# Altium footprint library Galio-connectors.PcbLib: 64 footprints (part 2 of 4)
Each footprint in its own frame and in the unit in brackets; x right, y up, seen from the top. Pads: shape width x height; smd on the part's side, far side on the other; paste and mask are expansions set on the pad; w line width, h text height; cw(c..) or ccw(c..) is an arc to the next point about the centre after c.
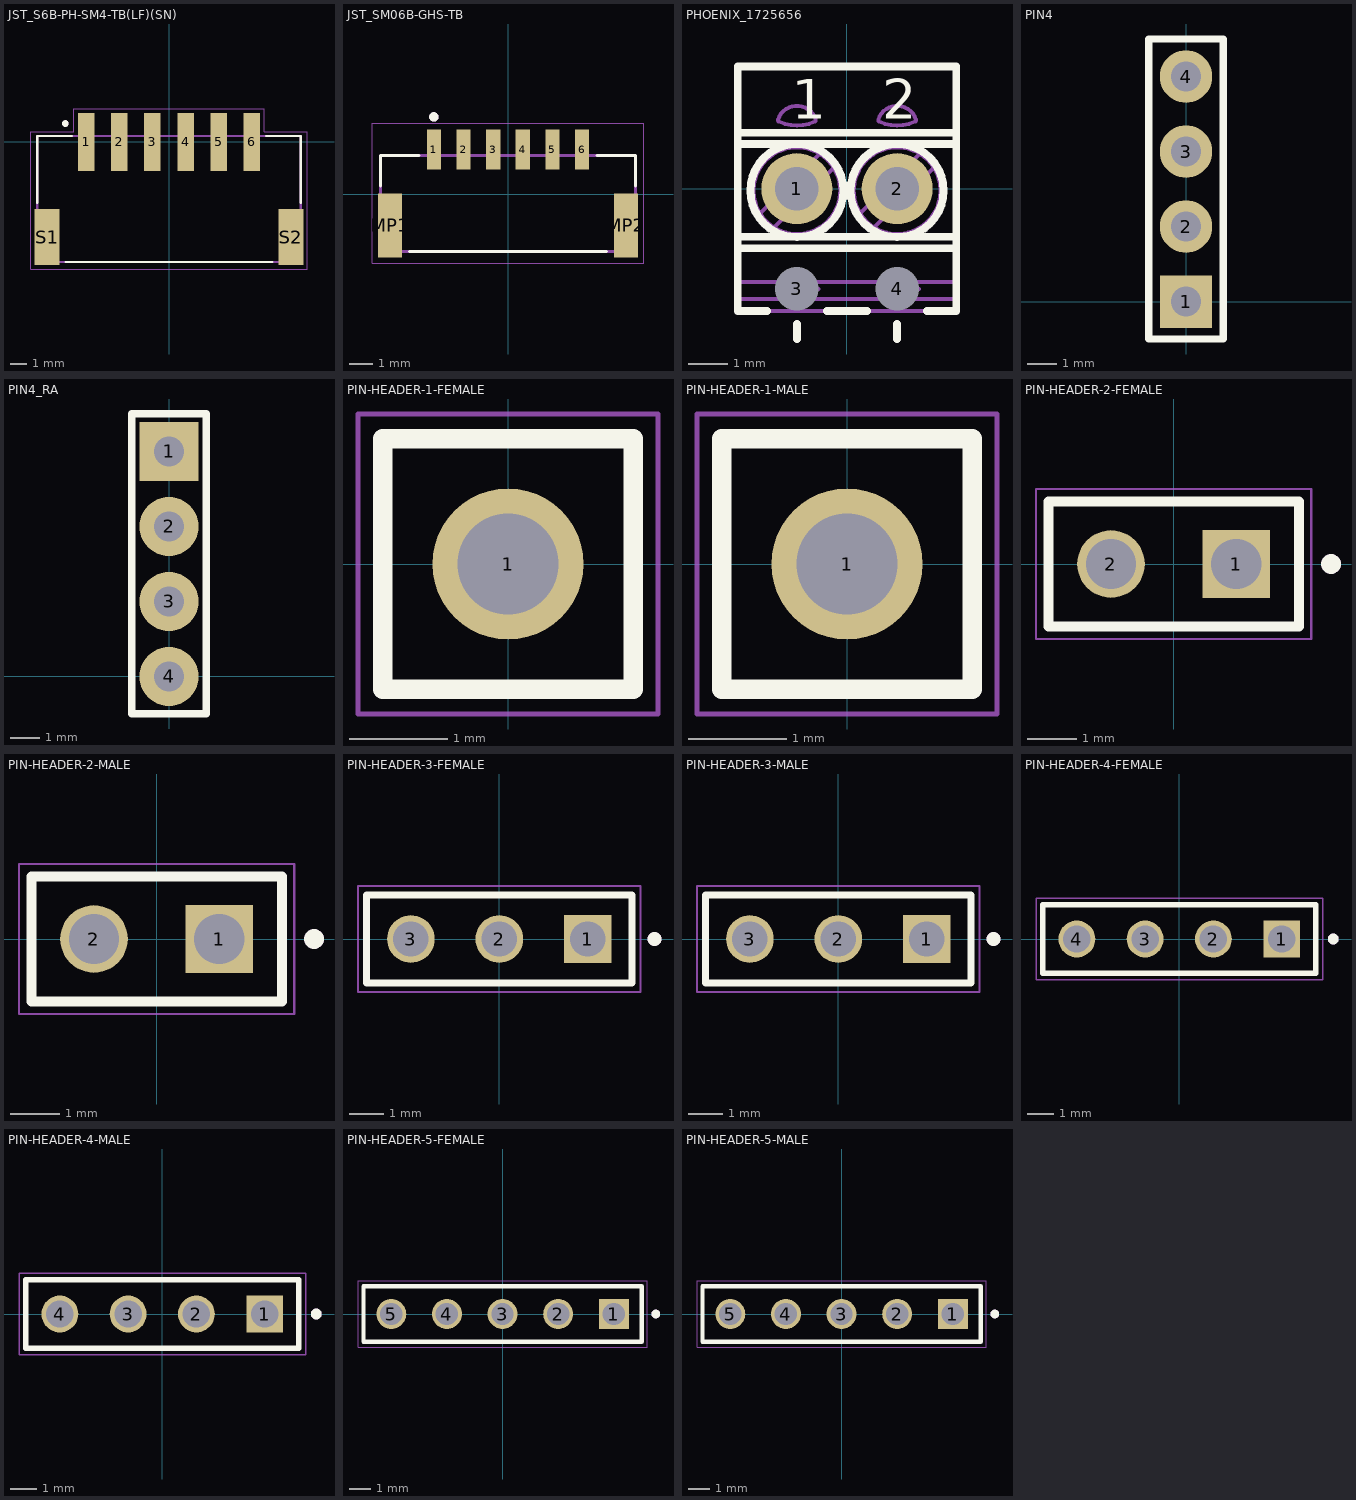
[diagram p1: the footprints below, top view; thin cyan lines are the x and y axes]

## JST_S6B-PH-SM4-TB(LF)(SN) [mm]
pads (8):
  rect 1x3.5 smd: 1(-5,0) 2(-3,0) 3(-1,0) 4(1,0) 5(3,0) 6(5,0)
  rect 1.5x3.4 smd: S1(-7.35,-5.75) S2(7.35,-5.75)
Top Overlay:
  circle w0.3: c-6.25,1.1 r0.05
  lines w0.127: -7.95,-3.7 -7.95,0.35 -5.85,0.35 ; -6.25,-7.25 6.25,-7.25 ; 5.85,0.35 7.95,0.35 7.95,-3.7
Mechanical 13:
  circle w0.3: c-6.25,1.1 r0.05
  lines w0.127: -7.95,-7.25 -7.95,0.35 7.95,0.35 7.95,-7.25 -7.95,-7.25
Mechanical 15:
  lines w0.05: -8.35,-7.7 -8.35,0.6 -5.75,0.6 -5.75,2 5.75,2 5.75,0.6 8.35,0.6 8.35,-7.7 -8.35,-7.7
3D body "step_temp.STEP": height 5.5, standoff -0.1, extent -8.204,-7.348 7.696,1.252

## JST_SM06B-GHS-TB [mm]
pads (8):
  rect 0.6x1.7 smd paste+0 mask+0.102: 1(-3.125,1.875) 2(-1.875,1.875) 3(-0.625,1.875) 4(0.625,1.875) 5(1.875,1.875) 6(3.125,1.875)
  rect 1x2.7 smd paste+0 mask+0.102: MP1(-4.975,-1.325) MP2(4.975,-1.325)
Top Overlay:
  circle w0.2: c-3.125,3.25 r0.1
  lines w0.127: -5.375,0.345 -5.375,1.625 -3.745,1.625 ; -4.155,-2.425 4.155,-2.425 ; 3.745,1.625 5.375,1.625 5.375,0.345
Mechanical 13:
  circle w0.2: c-3.125,3.25 r0.1
  lines w0.127: -5.375,-2.425 -5.375,1.625 5.375,1.625 5.375,-2.425 -5.375,-2.425
Mechanical 15:
  lines w0.05: -5.725,-2.925 -5.725,2.975 5.725,2.975 5.725,-2.925 -5.725,-2.925
3D body "step_temp.STEP": height 4.25, standoff 0, extent -5.375,-2.048 5.375,2.802

## PCBComponent_1 [mil]

## PHOENIX_1725656 [mm] "Micro PCB Terminal Block, Pitch 2.54mm, 2 Positions, Screw Connection"
height 8.5
pads (4):
  round 1.8 hole 1.1: 1(-1.27,0) 2(1.27,0)
  round 1 hole 1.1 unplated: 3(-1.27,-2.54) 4(1.27,-2.54)
Top Overlay:
  circle w0.2: c-1.27,-0.05 r1.18
  circle w0.2: c1.27,-0.05 r1.18
  lines w0.2: -2.77,-1.51 2.77,-1.51 ; -2.77,-1.22 2.77,-1.22 ; -2.77,1.132 2.77,1.132 ; -2.77,1.417 2.77,1.417 ; -2.032,-3.1 -2.77,-3.1 -2.77,3.1 2.77,3.1 2.77,-3.1 2.032,-3.1 ; -1.27,-3.81 -1.27,-3.429 ; -0.508,-3.1 0.508,-3.1 ; 1.27,-3.81 1.27,-3.429
  text "1" at -1.397,1.778 h1
  text "2" at 0.889,1.778 h1
Mechanical 8:
  lines w0.1: -1.82,0 -1.27,0 -1.27,-0.55 ; -1.27,-3.09 -1.27,-2.54 -0.72,-2.54 ; 1.27,-3.09 1.27,-2.54 1.82,-2.54 ; 1.27,-0.55 1.27,0 1.82,0
Mechanical 14:
  circle w0.1: c-1.27,-0.05 r1.1
  circle w0.1: c1.27,-0.05 r1.1
  lines w0.1: -2.77,-2.8 2.77,-2.8 ; -2.77,-2.361 2.77,-2.361 ; -2.77,-1.51 2.77,-1.51 ; -2.77,-1.22 2.77,-1.22 ; -2.77,1.132 2.77,1.132 ; -2.77,1.417 2.77,1.417 ; -2.168,-0.594 -0.726,0.848 ; -1.814,-0.948 -0.372,0.494 ; 0.372,-0.594 1.814,0.848 ; 0.726,-0.948 2.168,0.494 ; -2.77,-3.1 -2.77,3.1 2.77,3.1 2.77,-3.1 -2.77,-3.1 ; -1.745,1.757 cw(c-1.27,1.6) -0.795,1.757 cw(c-0.843,1.741) -0.822,1.696 cw(c-1.27,2.696) -1.718,1.696 cw(c-1.697,1.741) -1.745,1.757 ; 0.795,1.757 ccw(c0.843,1.741) 0.822,1.696 ccw(c1.27,2.696) 1.718,1.696 ccw(c1.697,1.741) 1.745,1.757 ccw(c1.27,1.6) 0.795,1.757
3D body "PHOENIX_1725656.stp": height 8.5, standoff -3.5, extent -2.77,-3.1 2.77,3.1

## PIN4 [mil]
pads (4):
  rect 70x70 hole 40: 1(0,0)
  round 70 hole 40: 2(0,100) 3(0,200) 4(0,300)
Top Overlay:
  lines w10: -50,-50 50,-50 50,350 -50,350 -50,-50
3D body "90120-0924.stp": height 345.37, standoff -133.02, extent -50.44,-50.45 49.56,349.55

## PIN4_RA [mm]
pads (4):
  rect 2x2 hole 1: 1(0,7.62)
  round 2 hole 1: 2(0,5.08) 3(0,2.54) 4(0,0)
Top Overlay:
  lines w0.254: -1.27,-1.27 1.27,-1.27 1.27,8.89 -1.27,8.89 -1.27,-1.27
3D body "4232.stp": height 6.15, standoff -3.3, extent -1.441,-1.228 8.643,8.678

## PIN-HEADER-1-FEMALE [mm]
pads (1):
  round 1.53 hole 1.02 mask+0.102: 1(0,0)
Top Overlay:
  lines w0.2: -1.27,-1.27 1.27,-1.27 1.27,1.27 -1.27,1.27 -1.27,-1.27
Mechanical 13:
  lines w0.1: -1.27,-1.27 1.27,-1.27 1.27,1.27 -1.27,1.27 -1.27,-1.27
Mechanical 15:
  lines w0.05: -1.52,-1.52 1.52,-1.52 1.52,1.52 -1.52,1.52 -1.52,-1.52

## PIN-HEADER-1-MALE [mm]
pads (1):
  round 1.53 hole 1.02 mask+0.102: 1(0,0)
Top Overlay:
  lines w0.2: -1.27,-1.27 1.27,-1.27 1.27,1.27 -1.27,1.27 -1.27,-1.27
Mechanical 13:
  lines w0.1: -1.27,-1.27 1.27,-1.27 1.27,1.27 -1.27,1.27 -1.27,-1.27
Mechanical 15:
  lines w0.05: -1.52,-1.52 1.52,-1.52 1.52,1.52 -1.52,1.52 -1.52,-1.52
3D body "MTSW-101-06-T-S-100.stp": height 5.08, standoff -2.54, extent -1.3,-1.232 1.24,1.308

## PIN-HEADER-2-FEMALE [mm]
pads (2):
  rect 1.37x1.37 hole 1.02: 1(1.27,0)
  round 1.37 hole 1.02: 2(-1.27,0)
Top Overlay:
  circle w0.2: c3.19,0 r0.1
  lines w0.2: -2.54,-1.27 2.54,-1.27 2.54,1.27 -2.54,1.27 -2.54,-1.27
Mechanical 13:
  circle w0.2: c3.19,0 r0.1
  lines w0.1: -2.54,-1.27 -2.54,1.27 ; -2.54,-1.27 2.54,-1.27 ; -2.54,-1.27 -2.54,1.27 ; -2.54,1.27 2.54,1.27 ; -2.54,1.27 2.54,1.27 ; 2.54,-1.27 2.54,1.27 ; 2.54,-1.27 2.54,1.27
Mechanical 15:
  lines w0.05: -2.79,-1.52 2.79,-1.52 2.79,1.52 -2.79,1.52 -2.79,-1.52
3D body "PIN-HEADER-2-FEMALE.step": height 8.5, standoff -3.2, extent -2.54,-1.27 2.54,1.27

## PIN-HEADER-2-MALE [mm]
pads (2):
  rect 1.37x1.37 hole 1.02: 1(1.27,0)
  round 1.37 hole 1.02: 2(-1.27,0)
Top Overlay:
  circle w0.2: c3.19,0 r0.1
  lines w0.2: -2.54,-1.27 -2.54,1.27 2.54,1.27 2.54,-1.27 -2.54,-1.27
Mechanical 13:
  circle w0.2: c3.19,0 r0.1
  lines w0.1: -2.54,-1.27 -2.54,1.27 ; -2.54,-1.27 2.54,-1.27 ; -2.54,-1.27 -2.54,1.27 ; -2.54,1.27 2.54,1.27 ; -2.54,1.27 2.54,1.27 ; 2.54,-1.27 2.54,1.27 ; 2.54,-1.27 2.54,1.27
Mechanical 15:
  lines w0.05: -2.79,-1.52 -2.79,1.52 2.79,1.52 2.79,-1.52 -2.79,-1.52
3D body "MTSW-102-06-T-S-100.stp": height 5.08, standoff -2.54, extent -2.54,-1.27 2.54,1.27

## PIN-HEADER-3-FEMALE [mm]
pads (3):
  rect 1.37x1.37 hole 1.02: 1(2.54,0)
  round 1.37 hole 1.02: 2(0,0) 3(-2.54,0)
Top Overlay:
  circle w0.2: c4.46,0 r0.1
  lines w0.2: -3.81,-1.27 3.81,-1.27 3.81,1.27 -3.81,1.27 -3.81,-1.27
Mechanical 13:
  circle w0.2: c4.46,0 r0.1
  lines w0.1: -3.81,-1.27 -3.81,1.27 ; -3.81,-1.27 3.81,-1.27 ; -3.81,-1.27 -3.81,1.27 ; -3.81,1.27 3.81,1.27 ; -3.81,1.27 3.81,1.27 ; 3.81,-1.27 3.81,1.27 ; 3.81,-1.27 3.81,1.27
Mechanical 15:
  lines w0.05: -4.06,-1.52 4.06,-1.52 4.06,1.52 -4.06,1.52 -4.06,-1.52
3D body "PIN-HEADER-3-FEMALE.step": height 8.5, standoff -3.2, extent -3.81,-1.27 3.81,1.27

## PIN-HEADER-3-MALE [mm]
pads (3):
  rect 1.37x1.37 hole 1.02: 1(2.54,0)
  round 1.37 hole 1.02: 2(0,0) 3(-2.54,0)
Top Overlay:
  circle w0.2: c4.46,0 r0.1
  lines w0.2: -3.81,-1.27 3.81,-1.27 3.81,1.27 -3.81,1.27 -3.81,-1.27
Mechanical 13:
  circle w0.2: c4.46,0 r0.1
  lines w0.1: -3.81,-1.27 -3.81,1.27 ; -3.81,-1.27 3.81,-1.27 ; -3.81,-1.27 -3.81,1.27 ; -3.81,1.27 3.81,1.27 ; -3.81,1.27 3.81,1.27 ; 3.81,-1.27 3.81,1.27 ; 3.81,-1.27 3.81,1.27
Mechanical 15:
  lines w0.05: -4.06,-1.52 4.06,-1.52 4.06,1.52 -4.06,1.52 -4.06,-1.52
3D body "MTSW-103-06-T-S-100.stp": height 5.08, standoff -2.54, extent -3.81,-1.27 3.81,1.27

## PIN-HEADER-4-FEMALE [mm]
pads (4):
  rect 1.37x1.37 hole 1.02: 1(3.81,0)
  round 1.37 hole 1.02: 2(1.27,0) 3(-1.27,0) 4(-3.81,0)
Top Overlay:
  circle w0.2: c5.73,0 r0.1
  lines w0.2: -5.08,-1.27 5.08,-1.27 5.08,1.27 -5.08,1.27 -5.08,-1.27
Mechanical 13:
  circle w0.2: c5.73,0 r0.1
  lines w0.1: -5.08,-1.27 -5.08,1.27 ; -5.08,-1.27 5.08,-1.27 ; -5.08,-1.27 -5.08,1.27 ; -5.08,1.27 5.08,1.27 ; -5.08,1.27 5.08,1.27 ; 5.08,-1.27 5.08,1.27 ; 5.08,-1.27 5.08,1.27
Mechanical 15:
  lines w0.05: -5.33,-1.52 5.33,-1.52 5.33,1.52 -5.33,1.52 -5.33,-1.52
3D body "PIN-HEADER-4-FEMALE.step": height 8.5, standoff -3.2, extent -5.08,-1.27 5.08,1.27

## PIN-HEADER-4-MALE [mm]
pads (4):
  rect 1.37x1.37 hole 1.02: 1(3.81,0)
  round 1.37 hole 1.02: 2(1.27,0) 3(-1.27,0) 4(-3.81,0)
Top Overlay:
  circle w0.2: c5.73,0 r0.1
  lines w0.2: -5.08,-1.27 5.08,-1.27 5.08,1.27 -5.08,1.27 -5.08,-1.27
Mechanical 13:
  circle w0.2: c5.73,0 r0.1
  lines w0.1: -5.08,-1.27 -5.08,1.27 ; -5.08,-1.27 5.08,-1.27 ; -5.08,-1.27 -5.08,1.27 ; -5.08,1.27 5.08,1.27 ; -5.08,1.27 5.08,1.27 ; 5.08,-1.27 5.08,1.27 ; 5.08,-1.27 5.08,1.27
Mechanical 15:
  lines w0.05: -5.33,-1.52 5.33,-1.52 5.33,1.52 -5.33,1.52 -5.33,-1.52
3D body "MTSW-104-06-T-S-100.stp": height 5.08, standoff -2.54, extent -5.08,-1.27 5.08,1.27

## PIN-HEADER-5-FEMALE [mm]
pads (5):
  rect 1.37x1.37 hole 1.02: 1(5.08,0)
  round 1.37 hole 1.02: 2(2.54,0) 3(0,0) 4(-2.54,0) 5(-5.08,0)
Top Overlay:
  circle w0.2: c7,0 r0.1
  lines w0.2: -6.35,-1.27 -6.35,1.27 6.35,1.27 6.35,-1.27 -6.35,-1.27
Mechanical 13:
  circle w0.2: c7,0 r0.1
  lines w0.1: -6.35,-1.27 -6.35,1.27 ; -6.35,-1.27 6.35,-1.27 ; -6.35,-1.27 -6.35,1.27 ; -6.35,1.27 6.35,1.27 ; -6.35,1.27 6.35,1.27 ; 6.35,-1.27 6.35,1.27 ; 6.35,-1.27 6.35,1.27
Mechanical 15:
  lines w0.05: -6.6,-1.52 -6.6,1.52 6.6,1.52 6.6,-1.52 -6.6,-1.52
3D body "PIN-HEADER-5-FEMALE.step": height 8.5, standoff -3.2, extent -6.35,-1.27 6.35,1.27

## PIN-HEADER-5-MALE [mm]
pads (5):
  rect 1.37x1.37 hole 1.02: 1(5.08,0)
  round 1.37 hole 1.02: 2(2.54,0) 3(0,0) 4(-2.54,0) 5(-5.08,0)
Top Overlay:
  circle w0.2: c7,0 r0.1
  lines w0.2: -6.35,-1.27 -6.35,1.27 6.35,1.27 6.35,-1.27 -6.35,-1.27
Mechanical 13:
  circle w0.2: c7,0 r0.1
  lines w0.1: -6.35,-1.27 -6.35,1.27 ; -6.35,-1.27 6.35,-1.27 ; -6.35,-1.27 -6.35,1.27 ; -6.35,1.27 6.35,1.27 ; -6.35,1.27 6.35,1.27 ; 6.35,-1.27 6.35,1.27 ; 6.35,-1.27 6.35,1.27
Mechanical 15:
  lines w0.05: -6.6,-1.52 -6.6,1.52 6.6,1.52 6.6,-1.52 -6.6,-1.52
3D body "MTSW-105-06-T-S-100.stp": height 5.08, standoff -2.54, extent -6.35,-1.27 6.35,1.27